# EAGLE library part L6235 (library IC)
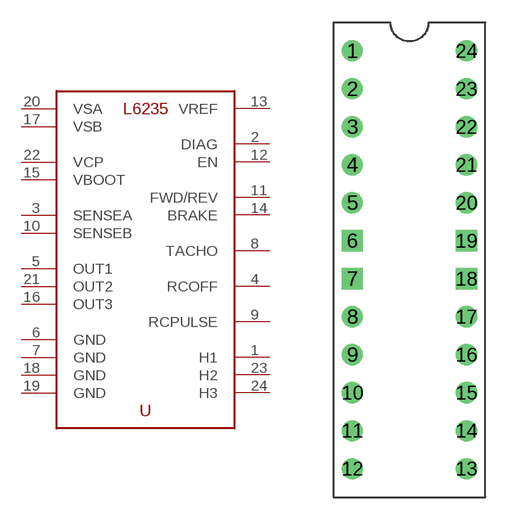
[diagram p3: symbol with the pads of DIL24-W0.3-G6,7,18,19; footprint DIL24-W0.3-G6,7,18,19]

Designator prefix -

## L6235  [DIL24-W0.3-G6,7,18,19]
1  H1
2  DIAG
3  SENSEA
4  RCOFF
5  OUT1
6  GND
7  GND
8  TACHO
9  RCPULSE
10  SENSEB
11  FWD/REV
12  EN
13  VREF
14  BRAKE
15  VBOOT
16  OUT3
17  VSB
18  GND
19  GND
20  VSA
21  OUT2
22  VCP
23  H2
24  H3

## Footprint DIL24-W0.3-G6,7,18,19 (pad centres in mm)
drill 0.9: 1 0,27.94; 2 0,25.4; 3 0,22.86; 4 0,20.32; 5 0,17.78; 8 0,10.16; 9 0,7.62; 10 0,5.08; 11 0,2.54; 12 0,0; 13 7.62,0; 14 7.62,2.54; 15 7.62,5.08; 16 7.62,7.62; 17 7.62,10.16; 20 7.62,17.78; 21 7.62,20.32; 22 7.62,22.86; 23 7.62,25.4; 24 7.62,27.94
drill 0.9 square: 6 0,15.24; 7 0,12.7; 18 7.62,12.7; 19 7.62,15.24